# Altium footprint library 5030.PcbLib: 1 footprints
Each footprint in its own frame and in the unit in brackets; x right, y up, seen from the top. Pads: shape width x height; smd on the part's side, far side on the other; paste and mask are expansions set on the pad; w line width, h text height; cw(c..) or ccw(c..) is an arc to the next point about the centre after c.
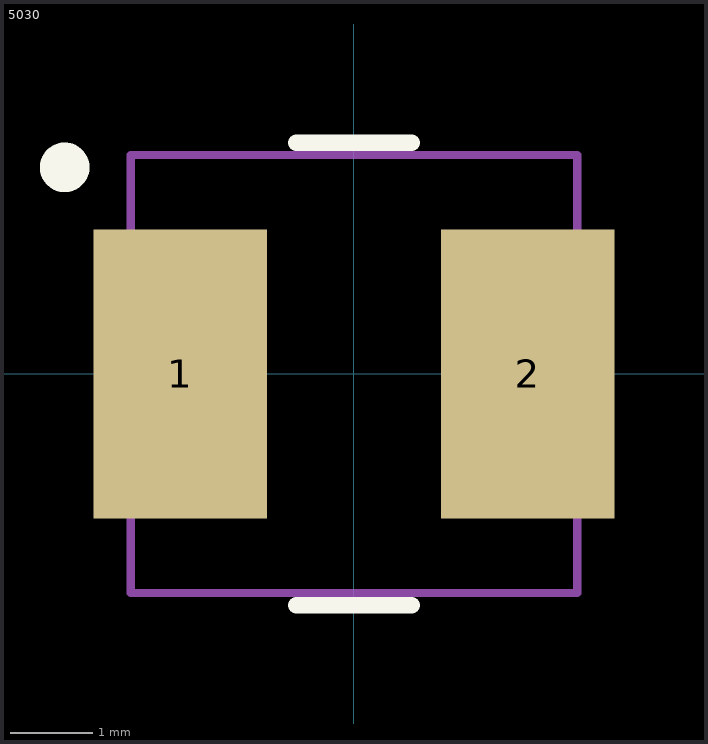
[diagram p0: the footprint, top view; thin cyan lines are the x and y axes]

## 5030 [mm]
pads (2):
  rect 2.1x3.5 smd: 1(-2.1,0) 2(2.1,0)
Top Overlay:
  circle w0.4: c-3.5,2.5 r0.1
  lines w0.2: -0.7,-2.8 0.7,-2.8 ; -0.7,2.8 0.7,2.8
Assembly Top:
  lines w0.1: -2.7,-2.65 2.7,-2.65 2.7,2.65 -2.7,2.65 ; -2.7,-2.625 -2.7,2.625